# EAGLE library part TDA7245A (library Audio-Power-amlifier V.2.0)
The TDA7245A is a monolithic integrated circuit in 9+9 POWERDIP package, intended for use as low frequency power amplifier in a wide range of applications in radio and TV sets.
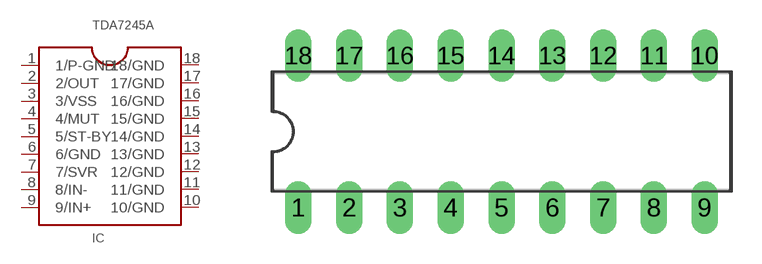
[diagram p131: symbol with the pads of DIL18; footprint DIL18]

Designator prefix IC

## TDA7245A  [DIL18]
1  1/P-GND  pwr
2  2/OUT  out
3  3/VSS  pwr
4  4/MUT  in
5  5/ST-BY  in
6  6/GND  pwr
7  7/SVR
8  8/IN-  in
9  9/IN+  in
10  10/GND  pwr
11  11/GND  pwr
12  12/GND  pwr
13  13/GND  pwr
14  14/GND  pwr
15  15/GND  pwr
16  16/GND  pwr
17  17/GND  pwr
18  18/GND  pwr

## Footprint DIL18 (pad centres in mm)
Dual In Line Package
drill 0.813 long: 1 -10.16,-3.81; 2 -7.62,-3.81; 3 -5.08,-3.81; 4 -2.54,-3.81; 5 0,-3.81; 6 2.54,-3.81; 7 5.08,-3.81; 8 7.62,-3.81; 9 10.16,-3.81; 10 10.16,3.81; 11 7.62,3.81; 12 5.08,3.81; 13 2.54,3.81; 14 0,3.81; 15 -2.54,3.81; 16 -5.08,3.81; 17 -7.62,3.81; 18 -10.16,3.81